# Altium footprint library TRANS_RF.PcbLib: 17 footprints (part 2 of 2)
Each footprint in its own frame and in the unit in brackets; x right, y up, seen from the top. Pads: shape width x height; smd on the part's side, far side on the other; paste and mask are expansions set on the pad; w line width, h text height; cw(c..) or ccw(c..) is an arc to the next point about the centre after c.
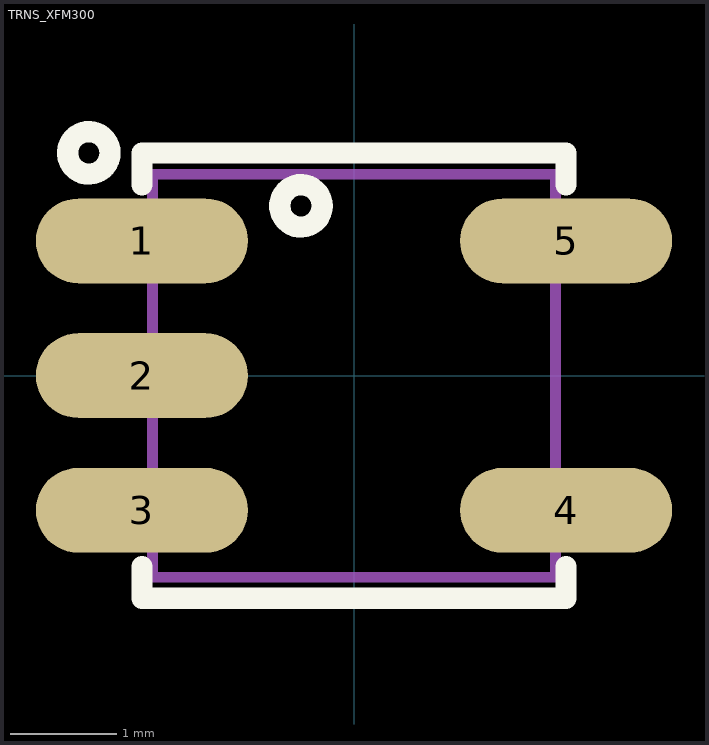
[diagram p1: the footprint, top view; thin cyan lines are the x and y axes]

## TRNS_XFM300 [mm] "Transformer, 5pin XFM3001-1UH 3.8x3.8mm pitch: 1.27mm"
height 3
pads (5):
  oval 2x0.8 smd: 1(-2,1.27) 2(-2,0) 3(-2,-1.27) 4(2,-1.27) 5(2,1.27)
Top Overlay:
  circle w0.2: c-0.5,1.6 r0.2
  circle w0.2: c-2.5,2.1 r0.2
  lines w0.2: -2,-1.8 -2,-2.1 2,-2.1 2,-1.8 ; -2,1.8 -2,2.1 2,2.1 2,1.8
Mechanical 13:
  lines w0.1: -1.9,-1.9 1.9,-1.9 1.9,1.9 -1.9,1.9 -1.9,-1.9
3D body "User Library-etc1-1-13.step": height 2.6, standoff 0, extent -2.413,-1.91 2.413,1.9